# Altium footprint library UMLP-10.PcbLib: 1 footprints
Each footprint in its own frame and in the unit in brackets; x right, y up, seen from the top. Pads: shape width x height; smd on the part's side, far side on the other; paste and mask are expansions set on the pad; w line width, h text height; cw(c..) or ccw(c..) is an arc to the next point about the centre after c.
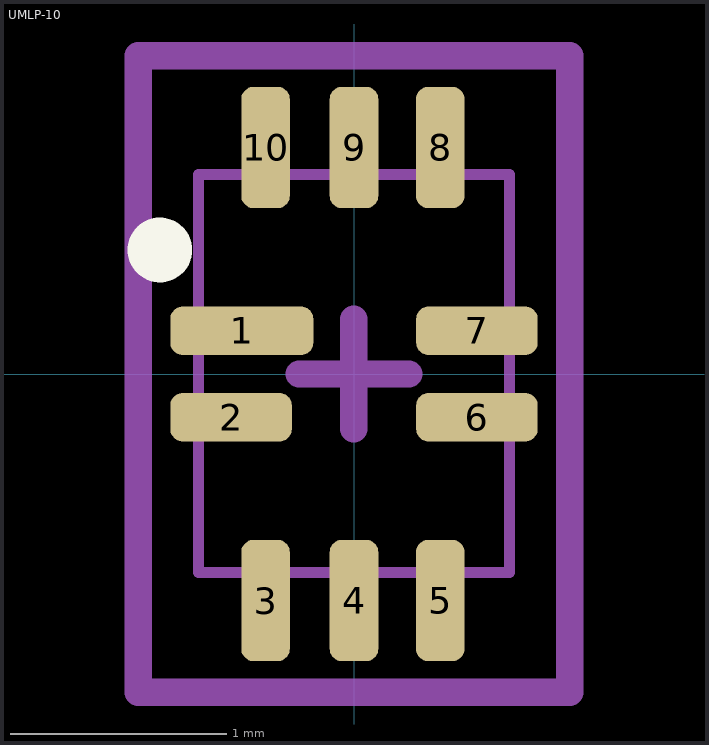
[diagram p0: the footprint, top view; thin cyan lines are the x and y axes]

## UMLP-10 [mm]
pads (10):
  rrect50% 0.663x0.225 smd mask+0.07: 1(-0.52,0.2)
  rrect50% 0.563x0.225 smd mask+0.07: 2(-0.57,-0.2) 6(0.57,-0.2) 7(0.57,0.2)
  rrect50% 0.225x0.563 smd mask+0.07: 3(-0.41,-1.05) 4(0,-1.05) 5(0.4,-1.05) 8(0.4,1.05) 9(0,1.05) 10(-0.41,1.05)
Top Overlay:
  circle w0.2: c-0.9,0.575 r0.05
Top Assembly:
  lines w0.051: -0.72,-0.92 0.72,-0.92 0.72,0.925 -0.72,0.925 -0.72,-0.92
Top Courtyard:
  lines w0.127: -0.254,0 0.254,0 ; 0,-0.254 0,0.254 ; -1,-1.475 1,-1.475 1,1.475 -1,1.475 -1,-1.475
3D body "User Library-UMLP-10.step": height 0.5, standoff 0, extent -0.72,-0.92 0.72,0.92